# EAGLE library part OLED_DD-9664FC-2A (library DD-9664FS-2A)
Densitron Display DD-9664FS-2A OLED 96x64 pixels 26x18mm glass, 20x13mm active area. RS Part number 554-245 Farnell Part number 1498841 Datasheet: http://www.xtune.se/images/products/oled96x64/datasheet.pdf
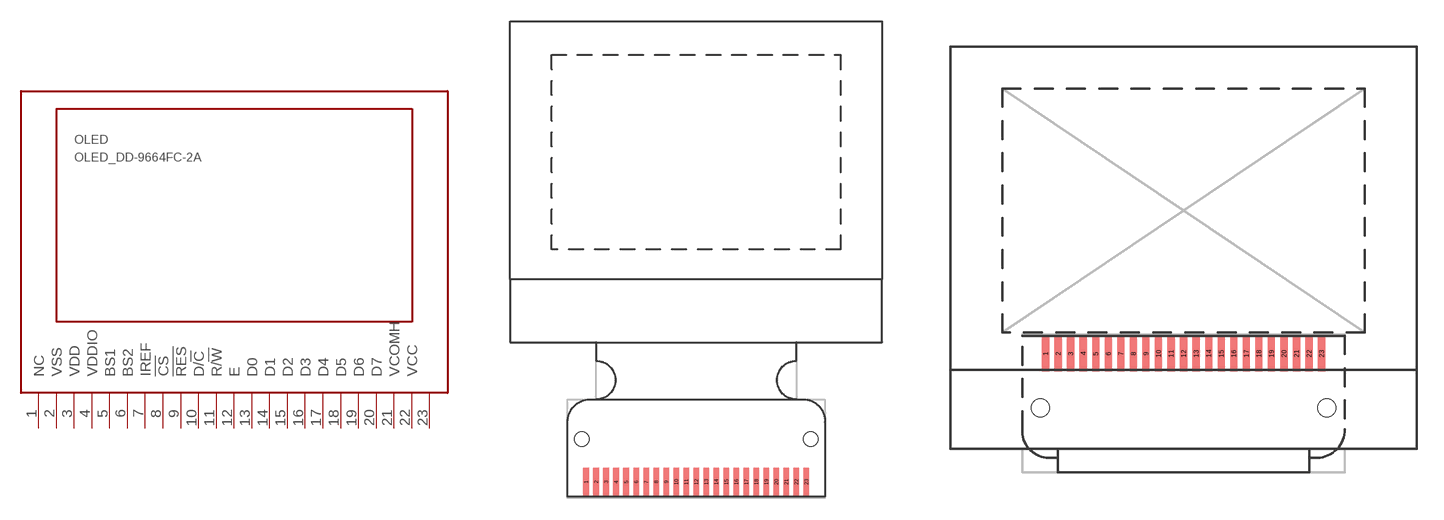
[diagram p0: symbol with the pads of OLEDDISPLAY9664; footprints OLEDDISPLAY9664, OLEDDISPLAY9664FOLDED]

Designator prefix OLED

## OLED_DD-9664FC-2AFLAT  [OLEDDISPLAY9664]
1  NC
2  VSS
3  VDD
4  VDDIO
5  BS1
6  BS2
7  IREF
8  !CS
9  !RES
10  D/!C
11  R/!W
12  E
13  D0
14  D1
15  D2
16  D3
17  D4
18  D5
19  D6
20  D7
21  VCOMH
22  VCC
23

## OLED_DD-9664FC-2AFOLDED  [OLEDDISPLAY9664FOLDED]
Pads as for OLEDDISPLAY9664

## Footprint OLEDDISPLAY9664 (pad centres in mm)
Densitron DD-964FC-2A Display. This footprint with the ribbon extended flat. Note there is no connector available for this FPC - it needs to be hot bar soldered.
smd 0.4 x 2: 1 -7.7,-23.08; 2 -7,-23.08; 3 -6.3,-23.08; 4 -5.6,-23.08; 5 -4.9,-23.08; 6 -4.2,-23.08; 7 -3.5,-23.08; 8 -2.8,-23.08; 9 -2.1,-23.08; 10 -1.4,-23.08; 11 -0.7,-23.08; 12 0,-23.08; 13 0.7,-23.08; 14 1.4,-23.08; 15 2.1,-23.08; 16 2.8,-23.08; 17 3.5,-23.08; 18 4.2,-23.08; 19 4.9,-23.08; 20 5.6,-23.08; 21 6.3,-23.08; 22 7,-23.08; 23 7.7,-23.08
hole 1 at -8,-20.08
hole 1 at 8,-20.08

## Footprint OLEDDISPLAY9664FOLDED (pad centres in mm)
smd 0.4 x 2: 1 -7.7,-7.98; 2 -7,-7.98; 3 -6.3,-7.98; 4 -5.6,-7.98; 5 -4.9,-7.98; 6 -4.2,-7.98; 7 -3.5,-7.98; 8 -2.8,-7.98; 9 -2.1,-7.98; 10 -1.4,-7.98; 11 -0.7,-7.98; 12 0,-7.98; 13 0.7,-7.98; 14 1.4,-7.98; 15 2.1,-7.98; 16 2.8,-7.98; 17 3.5,-7.98; 18 4.2,-7.98; 19 4.9,-7.98; 20 5.6,-7.98; 21 6.3,-7.98; 22 7,-7.98; 23 7.7,-7.98
hole 1 at 8,-11.02
hole 1 at -8,-11.02